# EAGLE library part PCA9548A (library parts)
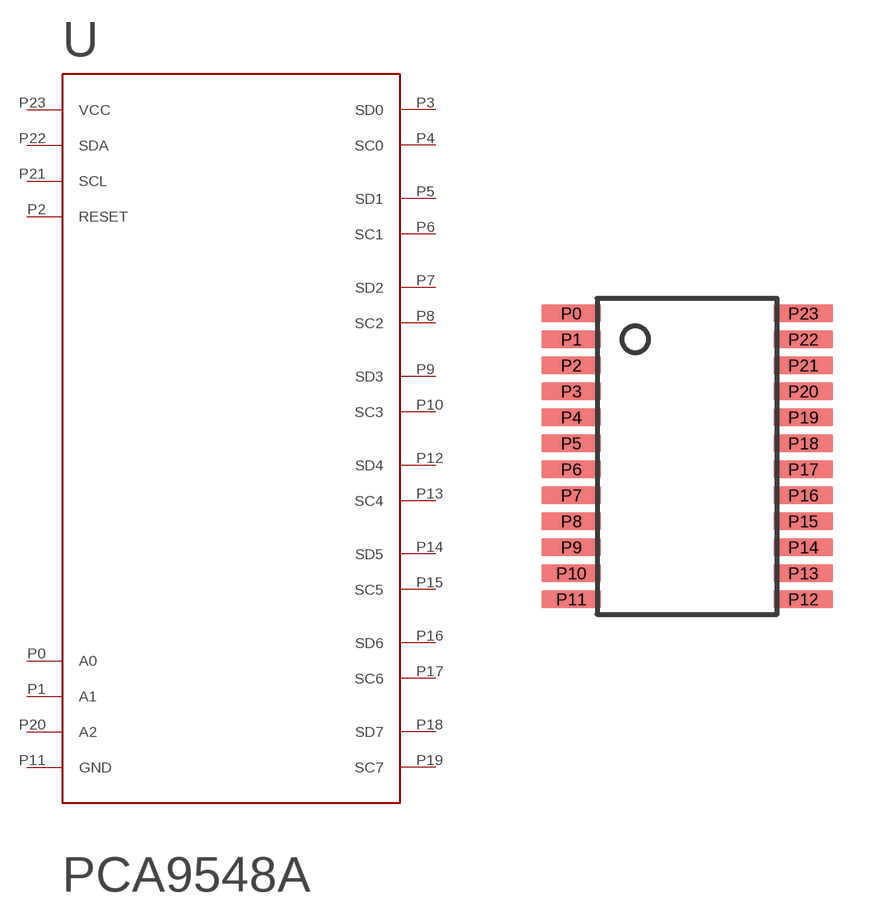
[diagram p3: symbol with the pads of PCA9548; footprint PCA9548]

Designator prefix -

## PCA9548A  [PCA9548]
P0  A0
P1  A1
P2  RESET
P3  SD0
P4  SC0
P5  SD1
P6  SC1
P7  SD2
P8  SC2
P9  SD3
P10  SC3
P11  GND
P12  SD4
P13  SC4
P14  SD5
P15  SC5
P16  SD6
P17  SC6
P18  SD7
P19  SC7
P20  A2
P21  SCL
P22  SDA
P23  VCC

## Footprint PCA9548 (pad centres in mm)
smd 1.5 x 0.45: P0 -2.9,3.575; P1 -2.9,2.925; P2 -2.9,2.275; P3 -2.9,1.625; P4 -2.9,0.975; P5 -2.9,0.325; P6 -2.9,-0.325; P7 -2.9,-0.975; P8 -2.9,-1.625; P9 -2.9,-2.275; P10 -2.9,-2.925; P11 -2.9,-3.575; P12 2.9,-3.575; P13 2.9,-2.925; P14 2.9,-2.275; P15 2.9,-1.625; P16 2.9,-0.975; P17 2.9,-0.325; P18 2.9,0.325; P19 2.9,0.975; P20 2.9,1.625; P21 2.9,2.275; P22 2.9,2.925; P23 2.9,3.575